# Altium footprint library PCB - LEADED - SOP - LT MSOP-8 MS8E 3X3MM.PCBLIB: 1 footprints
Each footprint in its own frame and in the unit in brackets; x right, y up, seen from the top. Pads: shape width x height; smd on the part's side, far side on the other; paste and mask are expansions set on the pad; w line width, h text height; cw(c..) or ccw(c..) is an arc to the next point about the centre after c.
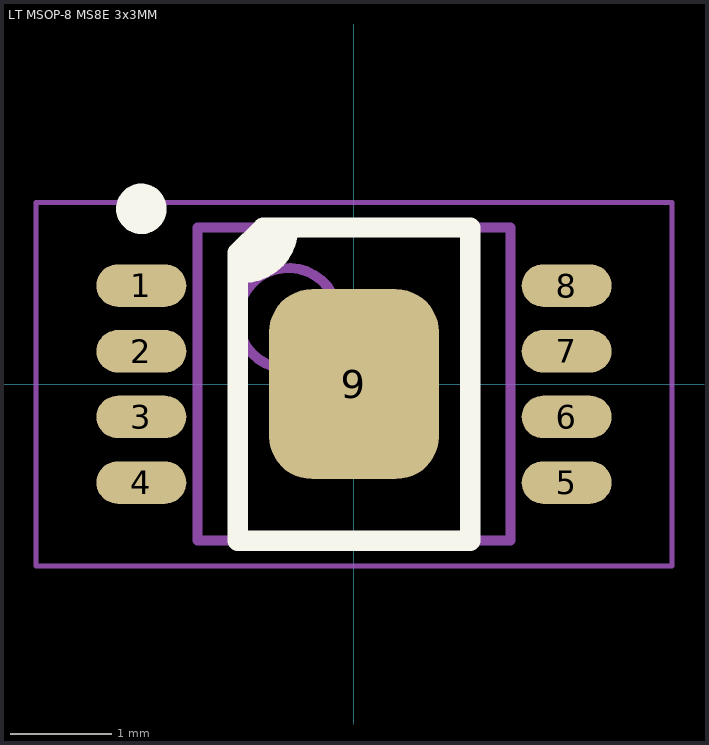
[diagram p0: the footprint, top view; thin cyan lines are the x and y axes]

## LT MSOP-8 MS8E 3x3MM [mm] "MSOP, 8-Leads, Body 3.00x3.00mm, Pitch 0.65mm, IPC Medium Density"
height 1.1
pads (9):
  oval 0.89x0.42 smd: 1(-2.105,0.975) 2(-2.105,0.325) 3(-2.105,-0.325) 4(-2.105,-0.975) 5(2.105,-0.975) 6(2.105,-0.325) 7(2.105,0.325) 8(2.105,0.975)
  rrect50% 1.68x1.88 smd: 9(0,0)
Top Overlay:
  circle w0.25: c-2.105,1.735 r0.125
  region: -1.05,1.4 -0.65,1.55 -0.65,1.4 -0.95,1.1 -1.15,1.1
  lines w0.2: -1.15,1.1 -1.1,1.1 ccw(c-1.1,1.55) -0.65,1.55 ; -1.15,-1.55 1.15,-1.55 1.15,1.55 -0.9,1.55 -1.15,1.3 -1.15,-1.55
Mechanical 13:
  circle w0.1: c-0.65,0.65 r0.5
  lines w0.1: -1.55,-1.55 1.55,-1.55 1.55,1.55 -1.55,1.55 -1.55,-1.55
Mechanical 15:
  lines w0.05: -3.15,-1.8 3.15,-1.8 3.15,1.8 -3.15,1.8 -3.15,-1.8
Mechanical 2 (Mech9):
  lines w0.1: -0.5,0 0.5,0 ; 0,-0.5 0,0.5
3D body "LT MS8E.STEP": height 0.96, standoff 0, extent -2.459,-1.5 2.46,1.5